# EAGLE library part 3221-10-0300-00 (library 3221-10-0300-00)
Check availability <https://pricing.snapeda.com/parts/3221-10-0300-00/CNC%20Tech/view-part?ref=eda>
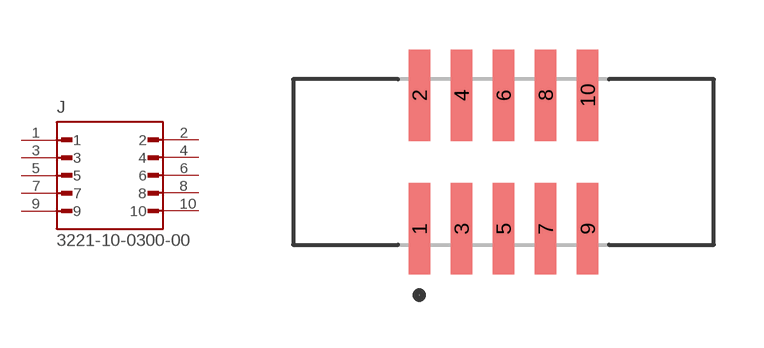
[diagram p0: symbol with the pads of CNC_3221-10-0300-00; footprint CNC_3221-10-0300-00]

Designator prefix J

## 3221-10-0300-00 (Availability: In Stock; Description: Connector Header Surface Mount 10 position 0.050 (1.27mm); MF: CNC Tech; MP: 3221-10-0300-00; Package: None; Price: None; Purchase-URL: https://pricing.snapeda.com/search/part/3221-10-0300-00/?ref=eda)  [CNC_3221-10-0300-00]
1  1  pas
2  2  pas
3  3  pas
4  4  pas
5  5  pas
6  6  pas
7  7  pas
8  8  pas
9  9  pas
10  10  pas

## Footprint CNC_3221-10-0300-00 (pad centres in mm)
smd 0.65 x 2.76: 1 -2.54,-2.02; 2 -2.54,2.02; 3 -1.27,-2.02; 4 -1.27,2.02; 5 0,-2.02; 6 0,2.02; 7 1.27,-2.02; 8 1.27,2.02; 9 2.54,-2.02; 10 2.54,2.02